# Altium schematic symbol library AAA3528ESGCT.SchLib: 1 symbol
Pins are listed as number, name and electrical type; pins without a type are passive.

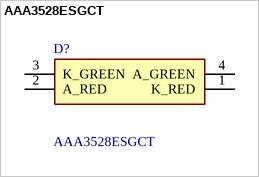
[diagram p0: symbol AAA3528ESGCT]

## AAA3528ESGCT
designator D?
Standard LEDs - SMD 3.5mmX2.8mm SMD LED LAMP RED GREEN; Manufacturer_Name: Kingbright; Geometry.Height: 2.1mm; Manufacturer_Part_Number: AAA3528ESGCT; Mouser Part Number: 604-AAA3528ESGCT; Mouser Price/Stock: https://www.mouser.co.uk/ProductDetail/Kingbright/AAA3528ESGCT?qs=HXFqYaX1Q2ztii0bK20PQg%3D%3D; Arrow Part Number: AAA3528ESGCT; Arrow Price/Stock: https://www.arrow.com/en/products/aaa3528esgct/kingbright?utm_currency=USD&region=nac; Datasheet Link: https://www.arrow.com/en/products/aaa3528esgct/kingbright
footprint AAA3528ESGCT
pins: 1 K_RED, 2 A_RED, 3 K_GREEN, 4 A_GREEN